# EAGLE library part LTC1992-1 (library stan)
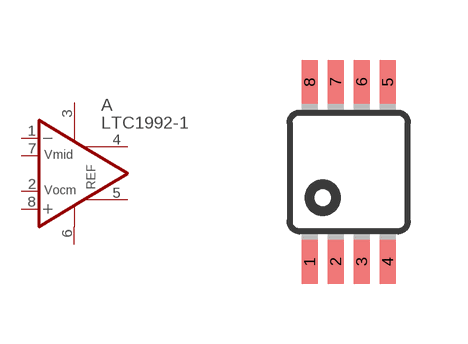
[diagram p13: symbol with the pads of MSOP8; footprint MSOP8]

Designator prefix A

## LTC1992-1  [MSOP8]
1  -IN  in
2  VOCM  in
3  +VS  pwr
4  OUT+  out
5  OUT-  out
6  -VS  pwr
7  VMID  in
8  +IN  in

## Footprint MSOP8 (pad centres in mm)
smd 0.4 x 1.1: 1 -0.975,-2.25; 2 -0.325,-2.25; 3 0.325,-2.25; 4 0.975,-2.25; 5 0.975,2.25; 6 0.325,2.25; 7 -0.325,2.25; 8 -0.975,2.25